# Altium footprint library MG_Resistance.PcbLib: 3 footprints
Each footprint in its own frame and in the unit in brackets; x right, y up, seen from the top. Pads: shape width x height; smd on the part's side, far side on the other; paste and mask are expansions set on the pad; w line width, h text height; cw(c..) or ccw(c..) is an arc to the next point about the centre after c.
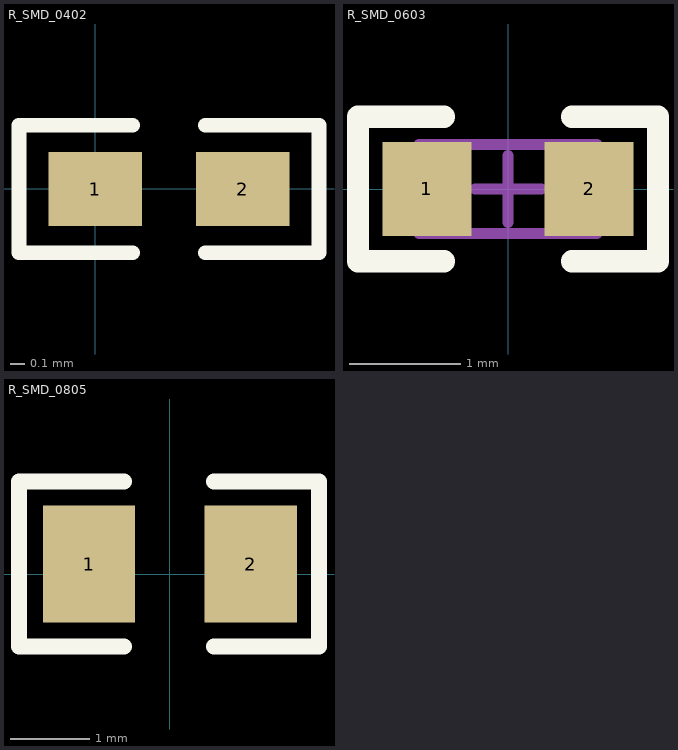
[diagram p0: the footprints below, top view; thin cyan lines are the x and y axes]

## R_SMD_0402 [mm]
pads (2):
  rect 0.635x0.5 smd: 1(0,0) 2(1,0)
Top Overlay:
  lines w0.1: 0.254,-0.432 -0.516,-0.432 -0.516,0.432 0.254,0.432 ; 0.746,-0.432 1.516,-0.432 1.516,0.432 0.746,0.432
3D body "User Library-0402R.STEP": height 0.34, standoff 0, extent -0.037,-0.3 1.003,0.3

## R_SMD_0603 [mm]
pads (2):
  rect 0.8x0.85 smd: 1(-0.73,0) 2(0.73,0)
Top Overlay:
  lines w0.2: -0.575,-0.65 -1.35,-0.65 -1.35,0.65 -0.575,0.65 ; 0.575,-0.65 1.35,-0.65 1.35,0.65 0.575,0.65
Mechanical 15:
  lines w0.1: -0.297,0 0.303,0 ; 0,-0.3 0,0.3 ; -0.8,-0.4 -0.8,0.4 0.8,0.4 0.8,-0.4 -0.8,-0.4
3D body "SW3DPS-RESISTOR 0603-DEFAULT.STEP": height 0.48, standoff -0.03, extent -0.8,-0.43 0.8,0.43

## R_SMD_0805 [mm]
pads (2):
  rect 1.16x1.47 smd: 1(-1.016,0.127) 2(1.016,0.127)
Top Overlay:
  lines w0.2: -0.577,-0.908 -1.897,-0.908 -1.897,1.162 -0.577,1.162 ; 0.555,-0.908 1.875,-0.908 1.875,1.162 0.555,1.162
3D body "SW3DPS-RESISTOR 0805-DEFAULT.STEP": height 0.43, standoff -0.03, extent -1,-0.503 1,0.757